# Altium footprint library MAX7000.PcbLib: 1 footprints
Each footprint in its own frame and in the unit in brackets; x right, y up, seen from the top. Pads: shape width x height; smd on the part's side, far side on the other; paste and mask are expansions set on the pad; w line width, h text height; cw(c..) or ccw(c..) is an arc to the next point about the centre after c.
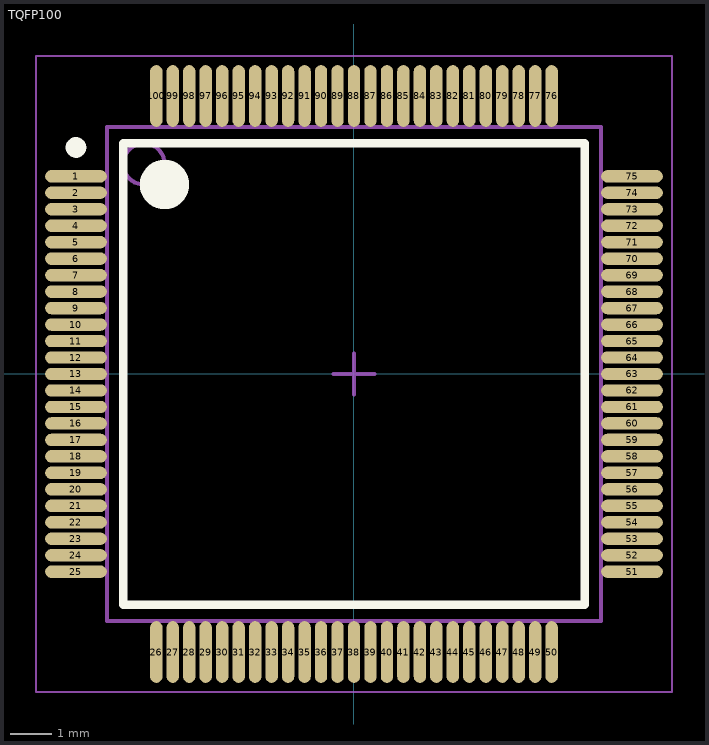
[diagram p0: the footprint, top view; thin cyan lines are the x and y axes]

## TQFP100 [mm] "TSQFP, 100-Leads, Body 12,00x12,00mm, Pitch 0,40mm, IPC Medium Density"
height 1.2
pads (100):
  oval 1.5x0.3 smd: 1(-6.75,4.8) 2(-6.75,4.4) 3(-6.75,4) 4(-6.75,3.6) 5(-6.75,3.2) 6(-6.75,2.8) 7(-6.75,2.4) 8(-6.75,2) 9(-6.75,1.6) 10(-6.75,1.2) 11(-6.75,0.8) 12(-6.75,0.4) 13(-6.75,0) 14(-6.75,-0.4) 15(-6.75,-0.8) 16(-6.75,-1.2) 17(-6.75,-1.6) 18(-6.75,-2) 19(-6.75,-2.4) 20(-6.75,-2.8) 21(-6.75,-3.2) 22(-6.75,-3.6) 23(-6.75,-4) 24(-6.75,-4.4) 25(-6.75,-4.8) 51(6.75,-4.8) 52(6.75,-4.4) 53(6.75,-4) 54(6.75,-3.6) 55(6.75,-3.2) 56(6.75,-2.8) 57(6.75,-2.4) 58(6.75,-2) 59(6.75,-1.6) 60(6.75,-1.2) 61(6.75,-0.8) 62(6.75,-0.4) 63(6.75,0) 64(6.75,0.4) 65(6.75,0.8) 66(6.75,1.2) 67(6.75,1.6) 68(6.75,2) 69(6.75,2.4) 70(6.75,2.8) 71(6.75,3.2) 72(6.75,3.6) 73(6.75,4) 74(6.75,4.4) 75(6.75,4.8)
  oval 0.3x1.5 smd: 26(-4.8,-6.75) 27(-4.4,-6.75) 28(-4,-6.75) 29(-3.6,-6.75) 30(-3.2,-6.75) 31(-2.8,-6.75) 32(-2.4,-6.75) 33(-2,-6.75) 34(-1.6,-6.75) 35(-1.2,-6.75) 36(-0.8,-6.75) 37(-0.4,-6.75) 38(0,-6.75) 39(0.4,-6.75) 40(0.8,-6.75) 41(1.2,-6.75) 42(1.6,-6.75) 43(2,-6.75) 44(2.4,-6.75) 45(2.8,-6.75) 46(3.2,-6.75) 47(3.6,-6.75) 48(4,-6.75) 49(4.4,-6.75) 50(4.8,-6.75) 76(4.8,6.75) 77(4.4,6.75) 78(4,6.75) 79(3.6,6.75) 80(3.2,6.75) 81(2.8,6.75) 82(2.4,6.75) 83(2,6.75) 84(1.6,6.75) 85(1.2,6.75) 86(0.8,6.75) 87(0.4,6.75) 88(0,6.75) 89(-0.4,6.75) 90(-0.8,6.75) 91(-1.2,6.75) 92(-1.6,6.75) 93(-2,6.75) 94(-2.4,6.75) 95(-2.8,6.75) 96(-3.2,6.75) 97(-3.6,6.75) 98(-4,6.75) 99(-4.4,6.75) 100(-4.8,6.75)
Top Overlay:
  circle w0.25: c-6.75,5.5 r0.125
  circle w0.6: c-4.6,4.6 r0.3
  lines w0.2: -5.6,-5.6 -5.6,5.6 5.6,5.6 5.6,-5.6 -5.6,-5.6
Mechanical 13:
  circle w0.1: c-5.1,5.1 r0.5
  lines w0.1: -6,-6 -6,6 6,6 6,-6 -6,-6
Mechanical 15:
  lines w0.05: -7.725,-7.725 -7.725,7.725 7.725,7.725 7.725,-7.725 -7.725,-7.725
  lines w0.1: -0.5,0 0.5,0 ; 0,-0.5 0,0.5
3D body: height 1.2, standoff 0.1, extent -6,-6 6,6